# EAGLE library part WE-RJ45_7499211125 (library Wurth_Signal & Communications_WE-RJ45_LAN)
WE-RJ45 LAN Transformer Characteristics RJ45 Connector with integrated transformer / common mode choke Power over Ethernet up to 50 Watt and speeds up to 10 Gbit/s Available in SMD, THT and THT with USB Compliant with standards: IEEE 802.3u, IEEE 802.3ab, IEEE 802.3af, IEEE 802.3at, IEEE 802.3an and upcoming IEE 802.3bt Applications Suitable for industrial temperatures from –40 °C up to +85 °C Compatible to Industrial Ethernet systems like EtherCAT or Profinet Compliant with most IC’s for Ethernet applications such as Microchip, Texas Instruments, Broadcom, Linear Technology Hubs, Routers, Switches, IP cameras, IoT applications <https://www.we-online.com/components/media/o35731v209%20Family-WE-RJ45LAN-7499xxxxxx.jpg> Details see: www.we-online.com/components/products/WE-LAN-RJ45 <www.we-online.com/catalog/WE-LAN-RJ45/?utm_source=eagle_model&utm_medium=description_link&utm_campaign=eisos_eagle> Updated by Ella Wu 2019-08-05 2019 (C) Wurth Elektronik
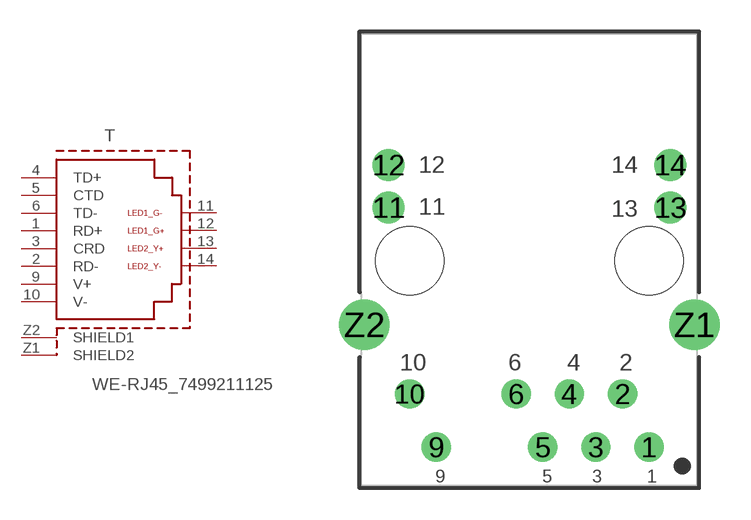
[diagram p31: symbol with the pads of 7499211125; footprint 7499211125]

Designator prefix T

## WE-RJ45_7499211125 (DATA-RATE: 10/100 Base-T; DATASHEET-URL: https://www.we-online.com/redexpert/spec/7499211125?ae; LED: yellow-green; MOUNT: THT; PART-NUMBER: 7499211125; POE: PoE (up to 350 mA); PORTS: 1; USB: No; VALUE: 7499211125)  [7499211125]
1  RD+  pas
2  RD-  pas
3  CRD  pas
4  TD+  pas
5  CTD  pas
6  TD-  pas
9  V+  pas
10  V-  pas
11  LED1_G-  pas
12  LED1_G+  pas
13  LED2_Y+  pas
14  LED2_Y-  pas
Z1  SHIELD2  pas
Z2  SHIELD1  pas

## Footprint 7499211125 (pad centres in mm)
WE-RJ45 LAN Transformer 10/100 Base-T
drill 0.89: 1 5.715,-8.89; 2 4.445,-6.35; 3 3.175,-8.89; 4 1.905,-6.35; 5 0.635,-8.89; 6 -0.635,-6.35; 9 -4.445,-8.89; 10 -5.715,-6.35
drill 1.02: 11 -6.725,2.54; 12 -6.725,4.57; 13 6.725,2.54; 14 6.725,4.57
drill 1.6: Z1 7.875,-3.05; Z2 -7.875,-3.05
hole 3.25 at 5.715,0
hole 3.25 at -5.715,0